# Altium integrated library SJ1-3555NG-BE.IntLib: 1 symbol
Pins are listed as number, name and electrical type; pins without a type are passive.

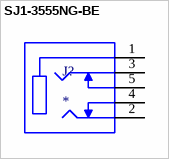
[diagram p0: symbol SJ1-3555NG-BE]

## SJ1-3555NG-BE
designator J?
Audio Jack, 3.5 mm, RT, Stereo, Through Hole, 2 Switches, Isolated Ground; MP: SJ1-3555NG-BE; Package: None; Price: None; Value: *; Availability: Unavailable
footprint CUI_SJ1-3555NG-BE
pins: 1, 2, 3, 4, 5